# EAGLE library part RY835AI (library RY835AI)
The REYAX RY835AI GNSS receiver module with embedded GPS/Glonass/BeiDou antenna enables high performance navigation in the most stringent applications and solid fix even in harsh GPS/Glonass/BeiDou visibility environments.
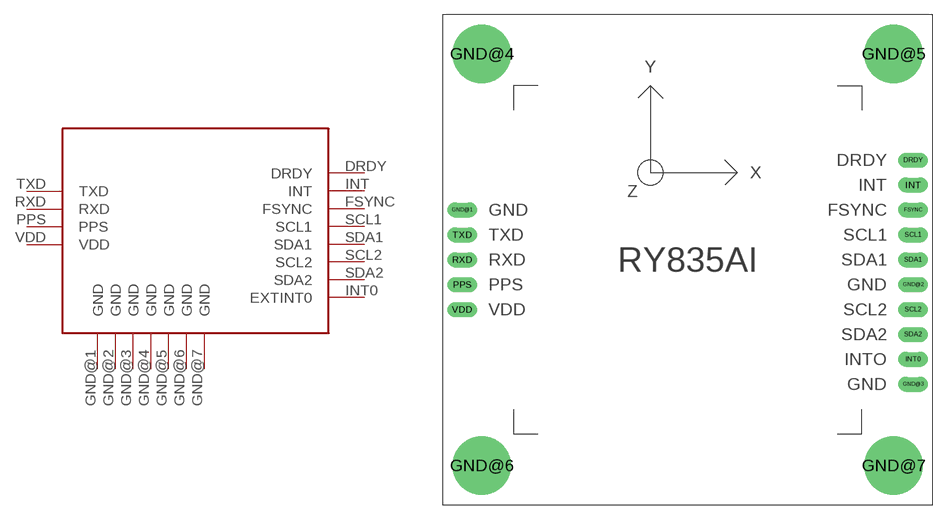
[diagram p0: symbol with the pads of RY835AI; footprint RY835AI]

Designator prefix -

## RY835AI  [RY835AI]
DRDY  DRDY  out
FSYNC  FSYNC  in
GND@1  GND  pwr
GND@2  GND  pwr
GND@3  GND  pwr
GND@4  GND  pwr
GND@5  GND  pwr
GND@6  GND  pwr
GND@7  GND  pwr
INT  INT  out
INT0  EXTINT0  in
PPS  PPS  out
RXD  RXD  in
SCL1  SCL1
SCL2  SCL2
SDA1  SDA1
SDA2  SDA2
TXD  TXD  out
VDD  VDD  pwr

## Footprint RY835AI (pad centres in mm)
drill 1.016 long: DRDY 23,10.16; FSYNC 23,5.08; GND@1 -23,5.08; GND@2 23,-2.54; GND@3 23,-12.7; INT 23,7.62; INT0 23,-10.16; PPS -23,-2.54; RXD -23,0; SCL1 23,2.54; SCL2 23,-5.08; SDA1 23,0; SDA2 23,-7.62; TXD -23,2.54; VDD -23,-5.08
drill 3 pad 6: GND@4 -21,21; GND@5 21,21; GND@6 -21,-21; GND@7 21,-21